# Altium schematic symbol library Amphenol_USB-miniB_SMT.SchLib: 1 symbol
Pins are listed as number, name and electrical type; pins without a type are passive.

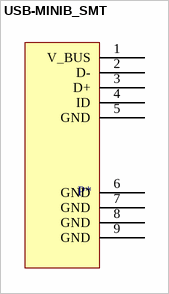
[diagram p0: symbol USB-MINIB_SMT]

## USB-MINIB_SMT
designator P*
USB - mini B Receptacle Connector 5 Position Surface Mount, Right Angle, Horizontal
footprint USB-miniB_SMT (USB - mini B Receptacle Connector 5 Position Surface Mount, Right Angle, Horizontal)
pins: 1 V_BUS, 2 D-, 3 D+, 4 ID, 5 GND, 6 GND, 7 GND, 8 GND, 9 GND